# Altium schematic symbol library Schlib_jp.SchLib: 203 symbols (part 1 of 6)
Pins are listed as number, name and electrical type; pins without a type are passive.

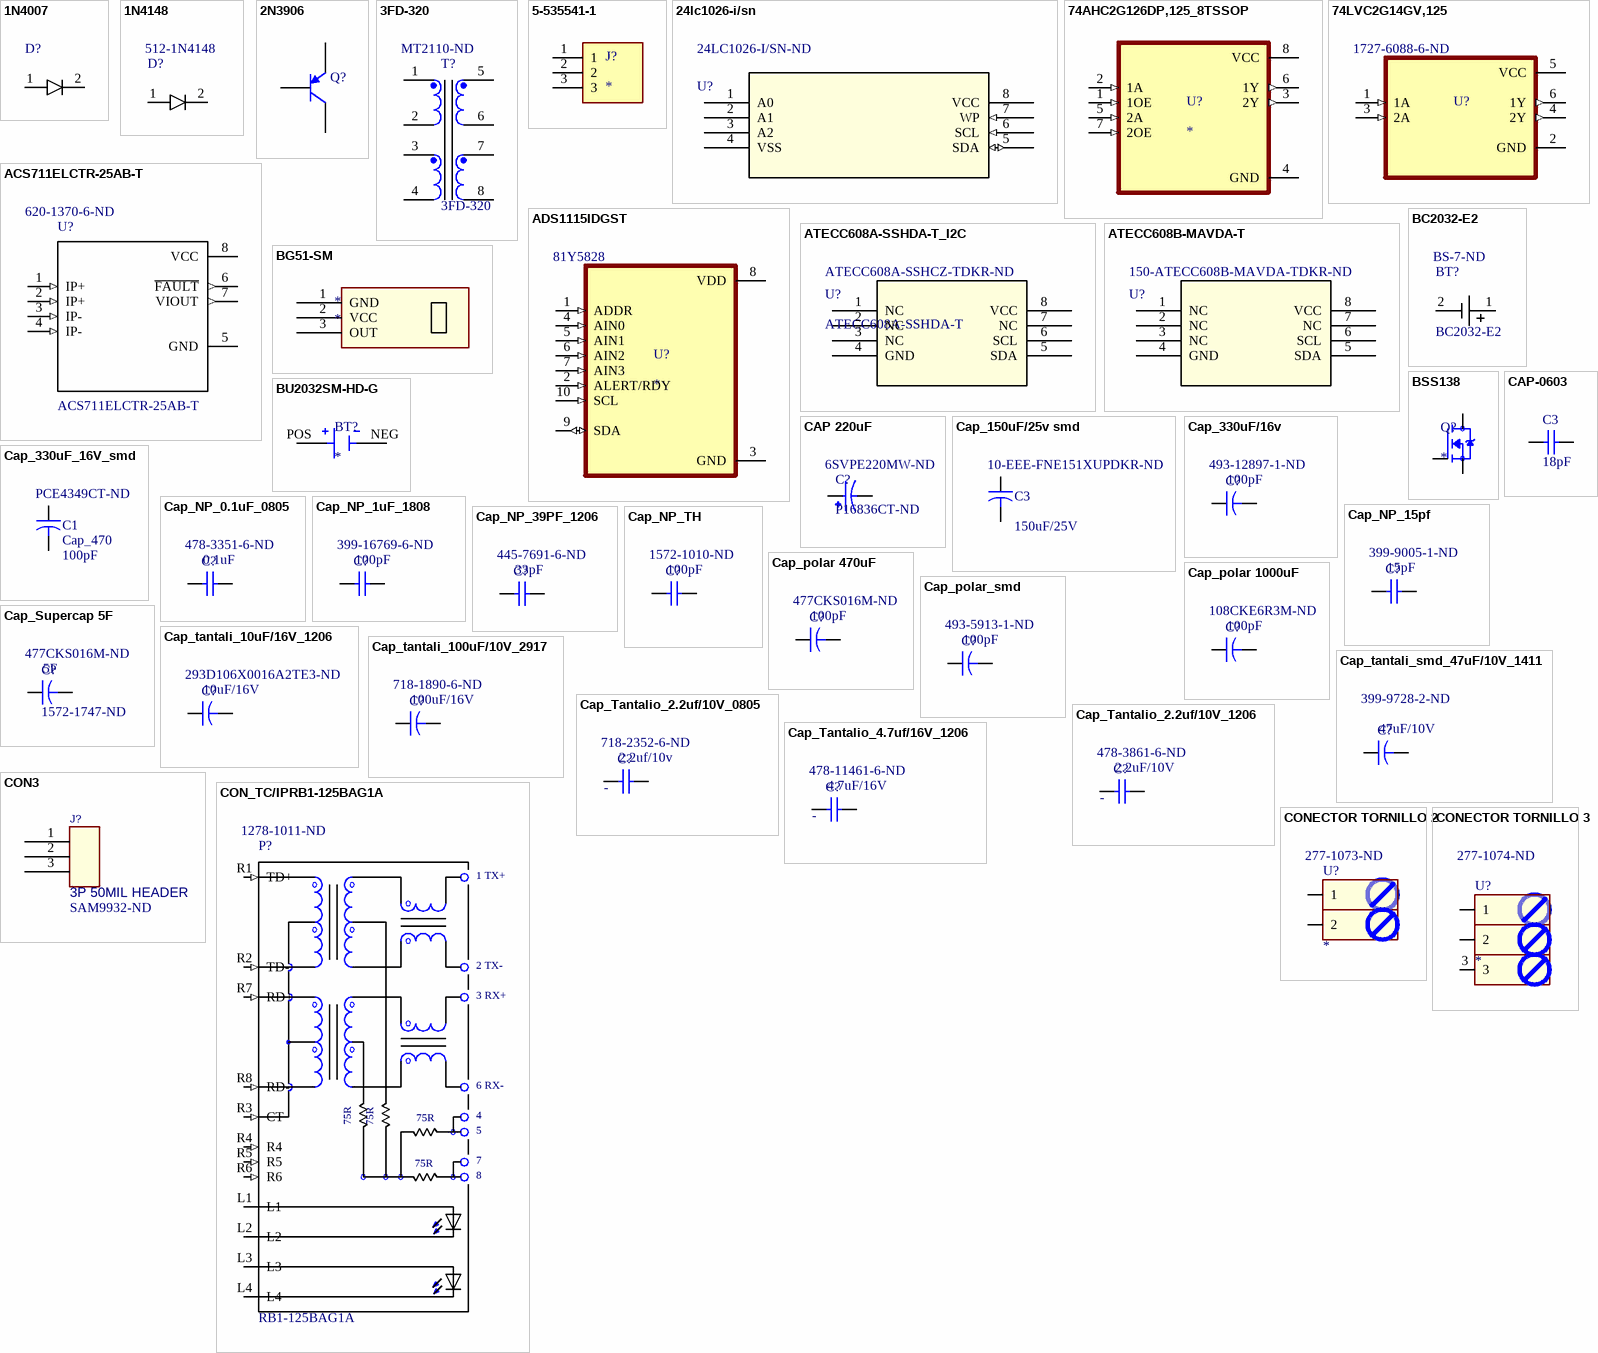
[diagram p0: symbols 1N4007 to CONECTOR TORNILLO 3]

## 1N4007
designator D?  (value not drawn)
Diode Switching 1KV 1A 2-Pin DO-41; Manufacturer: ON Semiconductor / Fairchild; MF: ON Semiconductor; Forward Voltage: 1.1V; Polarity: Standard; Peak Non-Repetitive Surge Current: 30A; Element Configuration: Single; Capacitance: 15pF; Peak Reverse Current: 5uA; Power Dissipation: 3W; Price: None; Package: DO-41 Good-Ark; Availability: Unavailable; MP: 1N4007; SnapEDA_Link: https://www.snapeda.com/parts/1N4007/ON%20Semiconductor/view-part/?ref=snap; Value: *; Supplier 1: Digi-Key; Manufacturer Part Number: 1N4007; Stock 1: 0; Pricing 1: 1=0.18, 10=0.168, 100=0.0912, 500=0.05614, 1000=0.03827 (USD); Mount: Through Hole; Number of Pins: 2; Weight: 0.245g; Contact Plating: Tin,Matte; Min Operating Temperature: -65°C; Max Operating Temperature: 175°C; Packaging: Tape and Reel; Voltage Rating (DC): 1kV; Current Rating: 1A; Output Current: 1A; Max Surge Current: 30A; Forward Current: 1A; Max Repetitive Reverse Voltage (Vrrm): 1kV; Max Forward Surge Current (Ifsm): 30A; Package Quantity: 1000; Reverse Voltage: 1kV; Average Rectified Current: 1A; Max Reverse Voltage (DC): 1kV; Diameter: 2.72mm; Length: 5.2mm; Height: 5.2mm; Width: 2.72mm; Radiation Hardening: No; REACH SVHC: No SVHC; Lead Free: Lead Free; ComponentLink1URL: http://www.farnell.com/datasheets/2288250.pdf?src-supplier=Newark; ComponentLink1Description: http://www.farnell.com/datasheets/2288250.pdf?src-supplier=Newark; ComponentLink2URL: http://www.onsemi.com/pub/Collateral/1N4001-D.PDF?src-supplier=Digi-Key; ComponentLink2Description: http://www.onsemi.com/pub/Collateral/1N4001-D.PDF?src-supplier=Digi-Key; ComponentLink3URL: http://www.fairchildsemi.com/datasheets/1N/1N4001.pdf?src-supplier=Digi-Key; ComponentLink3Description: http://www.fairchildsemi.com/datasheets/1N/1N4001.pdf?src-supplier=Digi-Key; Supplier Part Number 1: 1N4007FSCT-ND
footprint DIODE1N4007(Primary)
pins: 1, 2

## 1N4148
designator D?  Supplier Part Number 2: 512-1N4148  (hidden comment: 1N4148)
Diode Switching 1KV 1A 2-Pin DO-41; Manufacturer: ON Semiconductor / Fairchild; MF: ON Semiconductor; MP: 1N4007; Forward Voltage: 1.1V; Polarity: Standard; Peak Non-Repetitive Surge Current: 30A; Element Configuration: Single; Capacitance: 15pF; Peak Reverse Current: 5uA; Power Dissipation: 3W; Price: None; Package: DO-41 Good-Ark; Availability: Unavailable; SnapEDA_Link: https://www.snapeda.com/parts/1N4007/ON%20Semiconductor/view-part/?ref=snap; Value: *; Supplier 1: Digi-Key; Manufacturer Part Number: 1N4007; Stock 1: 0; Pricing 1: 1=0.18, 10=0.168, 100=0.0912, 500=0.05614, 1000=0.03827 (USD); Mount: Through Hole; Number of Pins: 2; Weight: 0.245g; Contact Plating: Tin,Matte; Min Operating Temperature: -65°C; Max Operating Temperature: 175°C; Packaging: Tape and Reel; Voltage Rating (DC): 1kV; Current Rating: 1A; Output Current: 1A; Max Surge Current: 30A; Forward Current: 1A; Max Repetitive Reverse Voltage (Vrrm): 1kV; Max Forward Surge Current (Ifsm): 30A; Package Quantity: 1000; Reverse Voltage: 1kV; Average Rectified Current: 1A; Max Reverse Voltage (DC): 1kV; Diameter: 2.72mm; Length: 5.2mm; Height: 5.2mm; Width: 2.72mm; Radiation Hardening: No; REACH SVHC: No SVHC; Lead Free: Lead Free; ComponentLink1URL: http://www.farnell.com/datasheets/2288250.pdf?src-supplier=Newark; ComponentLink1Description: http://www.farnell.com/datasheets/2288250.pdf?src-supplier=Newark; ComponentLink2URL: http://www.onsemi.com/pub/Collateral/1N4001-D.PDF?src-supplier=Digi-Key; ComponentLink2Description: http://www.onsemi.com/pub/Collateral/1N4001-D.PDF?src-supplier=Digi-Key; ComponentLink3URL: http://www.fairchildsemi.com/datasheets/1N/1N4001.pdf?src-supplier=Digi-Key; ComponentLink3Description: http://www.fairchildsemi.com/datasheets/1N/1N4001.pdf?src-supplier=Digi-Key; Supplier Part Number 1: 1N4007FSCT-ND; Supplier 2: Mouser
footprint 1N4148
pins: 1, 2

## 2N3906
designator Q?
PNP General Purpose Amplifier; Published: 8-Jun-2000; LatestRevisionDate: 15-Jan-2003; LatestRevisionNote: PCB Footprint 'BCY-W3/D4.7' replaced; DatasheetVersion: 1997; PackageVersion: Sep-1998; PackageReference: TO-92A; Publisher: Altium Limited; PackageDescription: TO, Flat Index; 3 In-Line, Axial Leads; Body Dia. 4.5mm; Leads 0.51 x 0.48 mm (max); ComponentLink1Description: Manufacturer Link; ComponentLink1URL: http://www.fairchildsemi.com/; ComponentLink2Description: Datasheet; ComponentLink2URL: http://www.fairchildsemi.com/ds/2N%2F2N3906.pdf
footprint TO-92A (TO, Flat Index; 3 In-Line, Axial Leads; Body Dia. 4.5mm; Leads 0.51 x 0.48 mm (max))
simulation model 2N3906 (PNP)
signal-integrity model 2N3906
pins: 1 E, 2 B, 3 C

## 3FD-320
designator T?  Supplier Part Number 1: MT2110-ND
Transformadores 12.6VCT @ .2A 6.3V  @ .4A Dual Primary; MP: 3FD-312; MF: Tamura; Package: SOIC-16 Tamura; Price: None; Availability: Unavailable; SnapEDA_Link: https://www.snapeda.com/parts/3FD-312/Tamura/view-part/?ref=snap; Value: *; Supplier 1: Digi-Key
footprint XFMR_3FD-320 (TAMURA)
pins: 1, 2, 3, 4, 5, 6, 7, 8

## 5-535541-1
designator J?  (value not drawn)
Conn Socket Strip RCP 3 POS 2.54mm Solder ST Thru-Hole Gang of Tubes; Product_Type: Connector; MF: TE Connectivity; Number_of_Positions: 3; Centerline_Pitch: 2.54 mm[.1 in]; Package: None; Value: *; TE_purchase_URL: https://www.te.com/usa-en/product-5-535541-1.html?te_bu=Cor&te_type=disp&te_campaign=seda_glo_cor-seda-global-disp-prtnr-fy19-seda-model-bom-cta_sma-317_1&elqCampaignId=32493; Price: None; MP: 5-535541-1; SnapEDA_Link: https://www.snapeda.com/parts/5-535541-1/TE%20Connectivity%20AMP%20Connectors/view-part/443642/?ref=snap; Availability: Unavailable; EU_RoHS_Compliance: Compliant; Comment_1: *
footprint TE_5-535541-1
pins: 1, 2, 3

## 24lc1026-i/sn
designator U?, comment 24LC1026-I/SN-ND
Memoria IC EEPROM 1Mb (128K x 8) I²C 900ns 8-SOIC; Manufacturer_Part_Number: 24lc1025-i/sn; Vendor: Microchip; Built_By: EMA_UL_Team; Value: 24LC1025; Interface: I2C,Serial; Frequency: 400kHz; Max Supply Voltage: 5.5V; Min Supply Voltage: 2.5V; Nominal Supply Current: 5mA; Operating Supply Voltage: 5V; Copyright: Copyright (C) 2018 Accelerated Designs. All rights reserved; RefDes: RefDes; Type: DEV; Supplier 1: Digi-Key; Manufacturer: Microchip; Manufacturer Part Number: 24LC1025-I/SN; Stock 1: 1127; Pricing 1: 1=2.86, 25=2.76 (USD); Mount: Surface Mount; Case/Package: SOIC; Number of Pins: 8; Min Operating Temperature: -40°C; Max Operating Temperature: 85°C; Access Time: 900ns; Packaging: Rail/Tube; Package Quantity: 100; Density: 1Mb; Memory Type: EEPROM; Memory Size: 1Mb; Max Frequency: 400kHz; Length: 4.9mm; Height: 1.75mm; Width: 6mm; Radiation Hardening: No; Lead Free: Lead Free; ComponentLink1URL: http://ww1.microchip.com/downloads/en/DeviceDoc/21941H.pdf?src-supplier=Avnet; ComponentLink1Description: http://ww1.microchip.com/downloads/en/DeviceDoc/21941H.pdf?src-supplier=Avnet; ComponentLink2URL: http://ww1.microchip.com/downloads/en/DeviceDoc/21941H.pdf?src-supplier=Avnet+Europe; ComponentLink2Description: http://ww1.microchip.com/downloads/en/DeviceDoc/21941H.pdf?src-supplier=Avnet+Europe; Supplier 2: Digi-Key; Supplier Part Number 1: 24LC1025-I/SN-ND; Supplier: DIGI_KEY; Link: https://www.digikey.com/es/products/detail/microchip-technology/24LC1026-I-SN/2601405; Digi_Key_Part_Number: 24LC1026-I/SN-ND; ComponentLink3Description: IC EEPROM 1MBIT I2C 400KHZ 8SOIC; ComponentLink3URL: https://www.digikey.com/es/products/detail/microchip-technology/24LC1026-I-SN/2601405?s=N4IgTCBcDa4CwBkDCBGADGAbAWgJIHoBlAORAF0BfIA; Supplier Part Number 2: 24LC1026-I/SN-ND
footprint SOIC8-N_MC-M
pins: 1 A0, 2 A1, 3 A2, 4 VSS (power), 5 SDA (io), 6 SCL (in), 7 WP (in), 8 VCC (power)

## 74AHC2G126DP,125_8TSSOP
designator U?
Dual Bus Buffer Gate With 3-State Outputs 8-TSSOP -40 to 125; MP: 74AHC2G126DP,125; Value: 74AHC2G126DP,125; MF: Nexperia USA Inc.; Check_prices: https://www.snapeda.com/parts/SN74LVC2G126DCUR/Texas%20Instruments/view-part/401295/?ref=eda; Price: None; SnapEDA_Link: https://www.snapeda.com/parts/SN74LVC2G126DCUR/Texas%20Instruments/view-part/401295/?ref=snap; Availability: Good; Purchase-URL: https://pricing.snapeda.com/search/part/SN74LVC2G126DCUR/?ref=eda; Package: TSSOP-8 Texas Instruments; Link: https://www.digikey.com/en/products/detail/nexperia-usa-inc/74AHC2G126DP-125/1229530; Digi-Key_Part_Number: 1727-8369-1-ND; ComponentLink1Description: 74AHC2G126DP,125; ComponentLink1URL: https://www.digikey.com/en/products/detail/nexperia-usa-inc/74AHC2G126DP-125/1229530
footprint SOP65P490X110-8N
pins: 1 1OE (in), 2 1A (in), 3 2Y (out), 4 GND (power), 5 2A (in), 6 1Y (out), 7 2OE (in), 8 VCC (power)

## 74LVC2G14GV,125
designator U?, comment Supplier Part Number 1: 1727-6088-6-ND  (hidden comment: 1727-6088-1-ND)
Inversor IC 2 Canal Gatillo Schmitt 6-TSOP; MP: SN74LVC2G17DBVR; MF: Texas Instruments; Texas_Instruments-Purchase-URL: https://snapeda.com/shop?store=Texas+Instruments&id=55703; SnapEDA_Link: https://www.snapeda.com/parts/SN74LVC2G17DBVR/Texas%20Instruments/view-part/55703/?ref=snap; Value: *; Mouser-Purchase-URL: https://snapeda.com/shop?store=Mouser&id=55703; Package: SOT-23-6 Texas Instruments; Arrow_Electronics-Purchase-URL: https://snapeda.com/shop?store=Arrow+Electronics&id=55703; DigiKey-Purchase-URL: https://snapeda.com/shop?store=DigiKey&id=55703; Supplier 1: Digi-Key; ComponentLink1Description: IC INVERT SCHMITT 2CH 2-IN 6TSOP; ComponentLink1URL: https://www.digikey.com/es/products/detail/nexperia-usa-inc/74LVC2G14GV-125/1231582?s=N4IgTCBcDaIIwHYwILQDYAMAOLK4oDkAREAXQF8g; Digi-Key_Part_Number: 1727-6088-1-ND; Link: https://www.digikey.com/es/products/detail/nexperia-usa-inc/74LVC2G14GV-125/1231582?s=N4IgTCBcDaIIwHYwILQDYAMAOLK4oDkAREAXQF8g
footprint SOT95P275X110-6N
footprint Model Name (Footprint not found)
pins: 1 1A (in), 2 GND (power), 3 2A (in), 4 2Y (out), 5 VCC (power), 6 1Y (out)

## ACS711ELCTR-25AB-T
designator U?  Supplier Part Number 1: 620-1370-6-ND
Hall Effect Linear Current Sensor with Overcurrent Fault Output for <100 V Isolation Applications; Manufacturer: Allegro MicroSystems; Manufacturer Part Number: ACS711ELCTR-12AB-T; MF: Allegro MicroSystems LLC; Number of Channels: 1; Frequency: 100kHz; Response Time: 4.6us; Max Supply Current: 5.5mA; Polarity: Bidirectional; Linearity: 1%; Accuracy: 5%; Current Sensing: 12.5A; Sensitivity: 110mV/A; Operating Supply Voltage: 3.3V; SnapEDA_Link: https://www.snapeda.com/parts/ACS711ELCTR-25AB-T/Allegro%20MicroSystems%20LLC/view-part/?ref=snap; Package: SOIC-8 Allegro MicroSystems LLC; MP: ACS711ELCTR-25AB-T; Availability: Unavailable; Price: None; Value: *; Supplier 1: Digi-Key; Stock 1: 4237; Pricing 1: 1=2.89, 5=2.682, 10=2.228, 25=1.8564, 50=1.65, 100=1.5675, 500=1.32, 1000=1.2375 (USD); Case/Package: SOIC; Number of Pins: 8; Min Operating Temperature: -40°C; Max Operating Temperature: 85°C; Package Quantity: 1; -3db Bandwidth: 100kHz; Packaging: Tape and Reel; ComponentLink1URL: http://www.allegromicro.com/en/Products/Part_Numbers/0711/0711.pdf?src-supplier=Avnet; ComponentLink1Description: http://www.allegromicro.com/en/Products/Part_Numbers/0711/0711.pdf?src-supplier=Avnet; ComponentLink2URL: http://www.allegromicro.com/~/media/Files/Datasheets/ACS711-Datasheet.ashx?src-supplier=Avnet+Europe; ComponentLink2Description: http://www.allegromicro.com/~/media/Files/Datasheets/ACS711-Datasheet.ashx?src-supplier=Avnet+Europe
footprint SOIC127P600X175-8N
pins: 1 IP+ (in), 2 IP+ (in), 3 IP- (in), 4 IP- (in), 5 GND (power), 6 ~{FAULT} (out), 7 VIOUT (out), 8 VCC (power)

## ADS1115IDGST
designator U?  Supplier Part Number 1: 81Y5828
MP: ADS1115IDGST; Package: None; Availability: Unavailable; Value: *; Price: None; Supplier 1: Newark
footprint SOP50P490X110-10N
pins: 1 ADDR (in), 2 ALERT/RDY (in), 3 GND (power), 4 AIN0 (in), 5 AIN1 (in), 6 AIN2 (in), 7 AIN3 (in), 8 VDD (power), 9 SDA (io), 10 SCL (in)

## ATECC608A-SSHDA-T_I2C
designator U?, comment ATECC608A-SSHDA-T  Supplier Part Number 1: ATECC608A-SSHCZ-TDKR-ND
CHIP DE AUTENTICACIÓN IC 8SOIC; Mfr_Name: Microchip; Manufacturer_Part_Number: ATECC608A-SSHCZ-T; Copyright: Copyright (C) 2022 Ultra Librarian. All rights reserved.; Digi-Key_Part_Number: 150-ATECC608B-SSHDA-TCT-ND; RefDes: RefDes; Type: DEV; Supplier 1: Digi-Key; ComponentLink1Description: ATECC608A-SSHDA-T; ComponentLink1URL: https://ww1.microchip.com/downloads/en/DeviceDoc/ATECC608A-CryptoAuthentication-Device-Summary-Data-Sheet-DS40001977B.pdf; Link: https://www.digikey.com/es/products/detail/microchip-technology/ATECC608B-SSHDA-T/13415162?s=N4IgTCBcDaIIIBUCiBhFA2ADADgEIAIBlQgCQBFEQBdAXyA; ComponentLink2Description: IC AUTHENTICATION CHIP; ComponentLink2URL: https://www.digikey.com/es/products/detail/microchip-technology/ATECC608B-SSHDA-T/13415162?s=N4IgTCBcDaIIwFYAMBaAggFQKIGEcDYkAOAIRQGVyAJAETRQxwxQDkaQBdAXyA
footprint SOIC8_4P9X3P9MC_MCH
pins: 1 NC, 2 NC, 3 NC, 4 GND, 5 SDA, 6 SCL, 7 NC, 8 VCC (power)

## ATECC608B-MAVDA-T
designator U?, comment Supplier Part Number 1: 150-ATECC608B-MAVDA-TDKR-ND  (hidden comment: 150-ATECC608B-MAVDA-TCT-ND)
IC AUTHENTICATION CHIP; Mfr_Name: Microchip; Manufacturer_Part_Number: ATECC608A-SSHCZ-T; Copyright: Copyright (C) 2022 Ultra Librarian. All rights reserved.; Digi-Key_Part_Number_1: ATECC608A-SSHCZ-TCT-ND; Digi-Key_Part_Number_2: ATECC608A-SSHCZ-TDKR-ND; Digi-Key_Part_Number_3: ATECC608A-SSHCZ-TTR-ND; RefDes: RefDes; Type: DEV; Supplier 1: Digi-Key
footprint SON50P300X200X60-9N-EP160X140
pins: 1 NC, 2 NC, 3 NC, 4 GND, 5 SDA, 6 SCL, 7 NC, 8 VCC (power)

## BC2032-E2
designator BT?  Supplier Part Number 1: BS-7-ND
BATTERY HOLDER COIN 20MM PC PIN; Manufacturer: Memory Protection Devices; Manufacturer Part Number: BS-7; MF: MPD _Memory; Number of Cells: 1; Package: None; Digi-Key_Purchase_URL: https://www.digikey.com/product-detail/en/mpd-memory-protection-devices/BC2032-E2/BC2032-E2-ND/2077836?utm_source=snapeda&utm_medium=aggregator&utm_campaign=symbol; SnapEDA_Link: https://www.snapeda.com/parts/BC2032-E2/MPD%20%28Memory%20Protection%20Devices%29/view-part/?ref=snap; Digi-Key_Part_Number: BC2032-E2-ND; MP: BC2032-E2; Value: *; Supplier 1: Digi-Key; Stock 1: 49949; Pricing 1: 1=0.75, 10=0.634, 100=0.5239, 500=0.45288, 1000=0.4235 (USD); Mount: Through Hole,PCB; Min Operating Temperature: -55°C; Max Operating Temperature: 105°C; Package Quantity: 100; Termination: PC Pin; Diameter: 20mm; Lead Free: Lead Free; ComponentLink1URL: http://www.memoryprotectiondevices.com/datasheets/BS-7-datasheet.pdf?src-supplier=Digi-Key; ComponentLink1Description: http://www.memoryprotectiondevices.com/datasheets/BS-7-datasheet.pdf?src-supplier=Digi-Key
footprint BAT3
pins: 1, 2

## BG51-SM
designator *
The BG51 is capable of detecting beta radiation / (electrons), gamma radiation (photons) and X-rays.
footprint BG51SM (Nuclear Beta and Gamma Radiation Sensor)
pins: 1 GND, 2 VCC (power), 3 OUT

## BSS138
designator Q?
N-Channel 50V 220mA (Ta) 360mW (Ta) Surface Mount SOT-23-3; MP: BSS138; MF: ON Semiconductor; SnapEDA_Link: https://www.snapeda.com/parts/BSS138/ON%20Semiconductor/view-part/4794929/?ref=snap; Purchase-URL: https://pricing.snapeda.com/search/part/BSS138/?ref=eda; Value: *; Package: SOT-23 ON; Digi-Key_Part_Number: BSS138CT-ND; Check_prices: https://www.snapeda.com/parts/BSS138/ON%20Semiconductor/view-part/4794929/?ref=eda
footprint SOT95P240X111-3N
pins: 1 G, 2 S, 3 D

## BU2032SM-HD-G
designator BT?
BATTERY HBattery Holder (Open) Coin, 20.0mm 1 Cell SMD (SMT) TabOLDER COIN 20MM SMD; MP: BU2032SM-HD-G; MF: MPD _Memory; Package: None; Value: *; Availability: Unavailable; Price: None; ComponentLink1Description: BU2032SM-HD-G; ComponentLink1URL: https://www.digikey.com/en/products/detail/mpd-memory-protection-devices/BU2032SM-HD-G/755446; Digi-Key_Part_Number: BU2032SM-HD-GCT-ND; Link: https://www.digikey.com/en/products/detail/mpd-memory-protection-devices/BU2032SM-HD-G/755446
footprint BAT_BU2032SM-HD-G
pins: NEG, POS

## CAP 220uF
designator C?, comment P16836CT-ND  Supplier Part Number 1: 6SVPE220MW-ND
220 µF 6.3 V Aluminio - capacitores de polímero Radial, encapsulado - terminales SMD 15mOhm 2000 h a 105°C; MP: 6SVPE220MW; Availability: Unavailable; Package: None; Value: *; Price: None; ComponentLink1Description: 6SVPE220MW; ComponentLink1URL: https://www.digikey.com/en/products/detail/panasonic-electronic-components/6SVPE220MW/4209271; Supplier 1: Digi-Key
footprint CAP_6SVPE220MW
pins: 1, 2

## CAP-0603
designator C3, comment 18pF
Ceramic CAP 0603(1608)
pins: 1, 2

## Cap_150uF/25v smd
designator C3  value 150uF/25V  Supplier Part Number 1: 10-EEE-FNE151XUPDKR-ND
Capacitor; Manufacturer: Nichicon; Manufacturer Part Number: UVR1E102MPD1TD; Dielectric Material: Aluminium; Capacitance: 1mF; Tolerance: 20%; Voltage Rating (DC): 25V; Life (Hours): 2000Hour; Ripple Current: 960mA; Leakage Current: 750uA; Dissipation Factor: 0.16%; Lead Diameter: 0.6mm; Published: 23-Sep-2002; PackageReference: CAPR5-4X5; Publisher: Altium Limited; PackageDescription: Capacitor; 2 Leads; Mount: Through Hole,PCB; Case/Package: Radial; Number of Pins: 2; Min Operating Temperature: -40°C; Max Operating Temperature: 85°C; Packaging: Tape and Reel; Voltage Rating: 25V; Package Quantity: 500; Termination: Radial; Voltage: 25V; Diameter: 10mm; Length: 20mm; Height: 20mm; Lead Pitch: 5mm; Height - Seated (Max): 0.866inch; Radiation Hardening: No; REACH SVHC: No SVHC; Lead Free: Lead Free; ComponentLink1Description: EEE-FNE151XUP; ComponentLink1URL: https://www.digikey.com/es/products/detail/panasonic-electronic-components/EEE-FNE151XUP/11656894; Supplier 1: Digi-Key
footprint CAPAE1030X1030N - duplicate
pins: 1, 2

## Cap_330uF/16v
designator C?  value 100pF  Supplier Part Number 1: 493-12897-1-ND
330 µF 16 V Aluminum Electrolytic Capacitors Radial, Can 1000 Hrs @ 105°C; Manufacturer: Nichicon; Manufacturer Part Number: UVR1E102MPD1TD; Dielectric Material: Aluminium; Capacitance: 1mF; Tolerance: 20%; Voltage Rating (DC): 25V; Life (Hours): 2000Hour; Ripple Current: 960mA; Leakage Current: 750uA; Dissipation Factor: 0.16%; Lead Diameter: 0.6mm; Published: 23-Sep-2002; PackageReference: CAPR5-4X5; Publisher: Altium Limited; PackageDescription: Capacitor; 2 Leads; Mount: Through Hole,PCB; Case/Package: Radial; Number of Pins: 2; Min Operating Temperature: -40°C; Max Operating Temperature: 85°C; Packaging: Tape and Reel; Voltage Rating: 25V; Package Quantity: 500; Termination: Radial; Voltage: 25V; Diameter: 10mm; Length: 20mm; Height: 20mm; Lead Pitch: 5mm; Height - Seated (Max): 0.866inch; Radiation Hardening: No; REACH SVHC: No SVHC; Lead Free: Lead Free; ComponentLink1URL: http://www.farnell.com/datasheets/1909356.pdf?src-supplier=Element14; ComponentLink1Description: http://www.farnell.com/datasheets/1909356.pdf?src-supplier=Element14; ComponentLink2URL: http://nichicon-us.com/english/products/pdfs/e-uvr.pdf?src-supplier=Digi-Key; ComponentLink2Description: http://nichicon-us.com/english/products/pdfs/e-uvr.pdf?src-supplier=Digi-Key; ComponentLink3URL: http://www.nichicon.co.jp/english/products/pdfs/e-vr.pdf?src-supplier=Avnet; ComponentLink3Description: http://www.nichicon.co.jp/english/products/pdfs/e-vr.pdf?src-supplier=Avnet; ComponentLink4URL: http://products.nichicon.co.jp/en/pdf/XJA043/e-vr.pdf?src-supplier=Future+Electronics; ComponentLink4Description: http://products.nichicon.co.jp/en/pdf/XJA043/e-vr.pdf?src-supplier=Future+Electronics; Supplier 1: Digi-Key; Stock 1: 8502; Pricing 1: 1=0.45, 10=0.312, 100=0.1869, 500=0.14018, 1000=0.11837 (USD); ComponentLink5URL: http://nichicon-us.com/english/products/pdfs/e-uvy.pdf?src-supplier=Digi-Key; ComponentLink5Description: http://nichicon-us.com/english/products/pdfs/e-uvy.pdf?src-supplier=Digi-Key; Digi_Key_Part_Number: 493-12897-1-ND; Link: https://www.digikey.com/en/products/detail/nichicon/UVY1C331MED1TD/4329096?s=N4IgTCBcDaICwE4DMBGMAOBB2AtCkAugL5A
footprint C470U
pins: 1, 2

## Cap_330uF_16V_smd
designator C1, comment Cap_470  value 100pF  Supplier Part Number 1: PCE4349CT-ND
Capacitor; Manufacturer: Nichicon; Manufacturer Part Number: UVR1E102MPD1TD; Dielectric Material: Aluminium; Capacitance: 1mF; Tolerance: 20%; Voltage Rating (DC): 25V; Life (Hours): 2000Hour; Ripple Current: 960mA; Leakage Current: 750uA; Dissipation Factor: 0.16%; Lead Diameter: 0.6mm; Published: 23-Sep-2002; PackageReference: CAPR5-4X5; Publisher: Altium Limited; PackageDescription: Capacitor; 2 Leads; Mount: Through Hole,PCB; Case/Package: Radial; Number of Pins: 2; Min Operating Temperature: -40°C; Max Operating Temperature: 85°C; Packaging: Tape and Reel; Voltage Rating: 25V; Package Quantity: 500; Termination: Radial; Voltage: 25V; Diameter: 10mm; Length: 20mm; Height: 20mm; Lead Pitch: 5mm; Height - Seated (Max): 0.866inch; Radiation Hardening: No; REACH SVHC: No SVHC; Lead Free: Lead Free; ComponentLink1Description: EEE-FC1C331AP; ComponentLink1URL: https://www.digikey.com/es/products/detail/panasonic-electronic-components/EEE-FC1C331AP/1141908; Supplier 1: Digi-Key
footprint CAPAE1030X1030N
pins: 1, 2

## Cap_NP_0.1uF_0805
designator C?, comment value 0.1uF  Supplier Part Number 1: 478-3351-6-ND  (hidden comment: 478-3351-1-ND)
0.1 µF ±20% 50V Ceramic Capacitor X7R 0805 (2012 Metric); Manufacturer: Kyocera AVX; Manufacturer Part Number: 08055C104MAT2A; Dissipation Factor: 2.5%; Insulation Resistance: 100GR; Capacitance: 100nF; Published: 8-Jun-2000; LatestRevisionDate: 17-Jul-2002; LatestRevisionNote: Re-released for DXP Platform.; PackageReference: RAD-0.3; Publisher: Altium Limited; PackageDescription: Radial Cap, Thru-Hole; 2 Leads; 0.3 in Pin Spacing; Supplier 1: Digi-Key; Stock 1: 163878; Pricing 1: 1=0.2, 10=0.14, 100=0.066, 500=0.0463, 1000=0.03833 (USD); Mount: Surface Mount,PCB; Case/Package: 0805; Number of Pins: 2; Case Code (Metric): 2012; Case Code (Imperial): 0805; Contact Plating: Tin,Matte; Dielectric Material: Ceramic; Min Operating Temperature: -55°C; Max Operating Temperature: 125°C; Package Quantity: 1; Voltage Rating: 50V; Tolerance: 20%; Packaging: Tape and Reel; Voltage Rating (DC): 50V; Dielectric: X7R; Termination: SMD/SMT; Voltage: 50V; Length: 2.01mm; Height: 0.94mm; Width: 0.049inch; Thickness: 0.037inch; Depth: 1.25mm; Radiation Hardening: No; REACH SVHC: No SVHC; Lead Free: Lead Free; ComponentLink1URL: http://catalogs.avx.com/SurfaceMount.pdf?src-supplier=Digi-Key; ComponentLink1Description: http://catalogs.avx.com/SurfaceMount.pdf?src-supplier=Digi-Key; ComponentLink2URL: http://www.avx.com/docs/catalogs/cx7r.pdf?src-supplier=Avnet; ComponentLink2Description: http://www.avx.com/docs/catalogs/cx7r.pdf?src-supplier=Avnet; ComponentLink3URL: https://www.alliedelec.com/m/d/a24bb5190bea413b2ff164816f55e87c.pdf?src-supplier=Allied+Electronics; ComponentLink3Description: https://www.alliedelec.com/m/d/a24bb5190bea413b2ff164816f55e87c.pdf?src-supplier=Allied+Electronics; ComponentLink4URL: http://www.avx.com/docs/catalogs/cx7r.pdf?src-supplier=Avnet+Europe; ComponentLink4Description: http://www.avx.com/docs/catalogs/cx7r.pdf?src-supplier=Avnet+Europe; ComponentLink5URL: http://www.farnell.com/datasheets/2095836.pdf?src-supplier=Element14; ComponentLink5Description: http://www.farnell.com/datasheets/2095836.pdf?src-supplier=Element14; ComponentLink6URL: http://www.farnell.com/datasheets/2237835.pdf?src-supplier=Element14; ComponentLink6Description: http://www.farnell.com/datasheets/2237835.pdf?src-supplier=Element14; ComponentLink7URL: http://avx.com/docs/Catalogs/cx7r.pdf?src-supplier=Element14; ComponentLink7Description: http://avx.com/docs/Catalogs/cx7r.pdf?src-supplier=Element14; Link: https://www.digikey.com/en/products/detail/kyocera-avx/08055C104MAT2A/929983?s=N4IgTCBcDaICwHYAcBmFBWAjANhAXQF8g; Digi_Key_Part_Number: 478-3351-1-ND
footprint CAP_NP_0805
pins: 1, 2

## Cap_NP_1uF_1808
designator C?, comment value 100pF  Supplier Part Number 1: 399-16769-6-ND  (hidden comment: 399-16769-1-ND)
1000 pF ±20% 2000V (2kV) Ceramic Capacitor X7R 1808 (4520 Metric); Manufacturer: Kyocera AVX; Manufacturer Part Number: 08055C104MAT2A; Capacitance: 100nF; Voltage Rating: 50V; Dissipation Factor: 2.5%; Insulation Resistance: 100GR; Published: 8-Jun-2000; LatestRevisionDate: 17-Jul-2002; LatestRevisionNote: Re-released for DXP Platform.; PackageReference: RAD-0.3; Publisher: Altium Limited; PackageDescription: Radial Cap, Thru-Hole; 2 Leads; 0.3 in Pin Spacing; Mount: Surface Mount,PCB; Case/Package: 0805; Number of Pins: 2; Case Code (Metric): 2012; Case Code (Imperial): 0805; Contact Plating: Tin,Matte; Dielectric Material: Ceramic; Min Operating Temperature: -55°C; Max Operating Temperature: 125°C; Package Quantity: 1; Tolerance: 20%; Packaging: Tape and Reel; Voltage Rating (DC): 50V; Dielectric: X7R; Termination: SMD/SMT; Voltage: 50V; Length: 2.01mm; Height: 0.94mm; Width: 0.049inch; Thickness: 0.037inch; Depth: 1.25mm; Radiation Hardening: No; REACH SVHC: No SVHC; Lead Free: Lead Free; ComponentLink1Description: 399-16769-1-ND; ComponentLink1URL: https://www.digikey.com/es/products/detail/kemet/C1808C102MGRACAUTO/8109950?s=N4IgjCBcpgbFoDGUBmBDANgZwKYBoQB7KAbXDABYKAmakAXQIAcAXKEAZRYCcBLAOwDmIAL4iCdSGTD8AYgHpqAawBqAAgDCObmgC2vZPRFA; Supplier 1: Digi-Key; Digi_Key_Part_Number: 399-16769-1-ND; Link: https://www.digikey.com/en/products/detail/kemet/C1808C102MGRACAUTO/8109950?s=N4IgTCBcDaIMwE4EEYBsB2VKQF0C%2BQA
footprint CAP-1808 (Ceramic CAP 1808(4520))
pins: 1, 2

## Cap_NP_15pf
designator C?  value 15pF  Supplier Part Number 1: 399-9005-1-ND
Capacitor; Manufacturer: Kyocera AVX; Manufacturer Part Number: 08055C104MAT2A; Dielectric Material: Ceramic; Capacitance: 100nF; Voltage Rating: 50V; Tolerance: 20%; Dielectric: X7R; Dissipation Factor: 2.5%; Insulation Resistance: 100GR; Published: 8-Jun-2000; LatestRevisionDate: 17-Jul-2002; LatestRevisionNote: Re-released for DXP Platform.; PackageReference: RAD-0.3; Publisher: Altium Limited; PackageDescription: Radial Cap, Thru-Hole; 2 Leads; 0.3 in Pin Spacing; Mount: Surface Mount,PCB; Case/Package: 0805; Number of Pins: 2; Case Code (Metric): 2012; Case Code (Imperial): 0805; Contact Plating: Tin,Matte; Min Operating Temperature: -55°C; Max Operating Temperature: 125°C; Package Quantity: 1; Packaging: Tape and Reel; Voltage Rating (DC): 50V; Termination: SMD/SMT; Voltage: 50V; Length: 2.01mm; Height: 0.94mm; Width: 0.049inch; Thickness: 0.037inch; Depth: 1.25mm; Radiation Hardening: No; REACH SVHC: No SVHC; Lead Free: Lead Free; ComponentLink1URL: http://catalogs.avx.com/SurfaceMount.pdf?src-supplier=Digi-Key; ComponentLink1Description: http://catalogs.avx.com/SurfaceMount.pdf?src-supplier=Digi-Key; ComponentLink2URL: http://www.avx.com/docs/catalogs/cx7r.pdf?src-supplier=Avnet; ComponentLink2Description: http://www.avx.com/docs/catalogs/cx7r.pdf?src-supplier=Avnet; ComponentLink3URL: https://www.alliedelec.com/m/d/a24bb5190bea413b2ff164816f55e87c.pdf?src-supplier=Allied+Electronics; ComponentLink3Description: https://www.alliedelec.com/m/d/a24bb5190bea413b2ff164816f55e87c.pdf?src-supplier=Allied+Electronics; ComponentLink4URL: http://www.avx.com/docs/catalogs/cx7r.pdf?src-supplier=Avnet+Europe; ComponentLink4Description: http://www.avx.com/docs/catalogs/cx7r.pdf?src-supplier=Avnet+Europe; ComponentLink5URL: http://www.farnell.com/datasheets/2095836.pdf?src-supplier=Element14; ComponentLink5Description: http://www.farnell.com/datasheets/2095836.pdf?src-supplier=Element14; ComponentLink6URL: http://www.farnell.com/datasheets/2237835.pdf?src-supplier=Element14; ComponentLink6Description: http://www.farnell.com/datasheets/2237835.pdf?src-supplier=Element14; ComponentLink7URL: http://avx.com/docs/Catalogs/cx7r.pdf?src-supplier=Element14; ComponentLink7Description: http://avx.com/docs/Catalogs/cx7r.pdf?src-supplier=Element14; Supplier 1: Digi-Key; Stock 1: 59743; Pricing 1: 1=0.11, 10=0.078, 100=0.0347, 500=0.0248, 1000=0.01948 (USD); Lead Pitch: 0.7mm; ComponentLink8URL: http://www.mouser.com/ds/2/212/KEM_C1003_C0G_SMD-1101588.pdf?src-supplier=Mouser; ComponentLink8Description: http://www.mouser.com/ds/2/212/KEM_C1003_C0G_SMD-1101588.pdf?src-supplier=Mouser
footprint CAP_NP_C2012X94N
pins: 1, 2

## Cap_NP_39PF_1206
designator C?, comment value 33pF  Supplier Part Number 1: 445-7691-6-ND  (hidden comment: 478-3351-1-ND)
0.033 µF ±5% 50V Capacitores cerámicos C0G, NP0 1206 (3216 métrico); Manufacturer: Kyocera AVX; Manufacturer Part Number: 08055C104MAT2A; Digi_Key_Part_Number: 445-7691-1-ND; Dielectric Material: Ceramic; Capacitance: 100nF; Tolerance: 20%; Dielectric: X7R; Dissipation Factor: 2.5%; Insulation Resistance: 100GR; Published: 8-Jun-2000; LatestRevisionDate: 17-Jul-2002; LatestRevisionNote: Re-released for DXP Platform.; PackageReference: RAD-0.3; Publisher: Altium Limited; PackageDescription: Radial Cap, Thru-Hole; 2 Leads; 0.3 in Pin Spacing; Mount: Surface Mount,PCB; Case/Package: 0805; Number of Pins: 2; Case Code (Metric): 2012; Case Code (Imperial): 0805; Contact Plating: Tin,Matte; Min Operating Temperature: -55°C; Max Operating Temperature: 125°C; Package Quantity: 1; Voltage Rating: 50V; Packaging: Tape and Reel; Voltage Rating (DC): 50V; Termination: SMD/SMT; Voltage: 50V; Length: 2.01mm; Height: 0.94mm; Width: 0.049inch; Thickness: 0.037inch; Depth: 1.25mm; Radiation Hardening: No; REACH SVHC: No SVHC; Lead Free: Lead Free; ComponentLink1URL: http://catalogs.avx.com/SurfaceMount.pdf?src-supplier=Digi-Key; ComponentLink1Description: http://catalogs.avx.com/SurfaceMount.pdf?src-supplier=Digi-Key; ComponentLink2URL: http://www.avx.com/docs/catalogs/cx7r.pdf?src-supplier=Avnet; ComponentLink2Description: http://www.avx.com/docs/catalogs/cx7r.pdf?src-supplier=Avnet; ComponentLink3URL: https://www.alliedelec.com/m/d/a24bb5190bea413b2ff164816f55e87c.pdf?src-supplier=Allied+Electronics; ComponentLink3Description: https://www.alliedelec.com/m/d/a24bb5190bea413b2ff164816f55e87c.pdf?src-supplier=Allied+Electronics; ComponentLink4URL: http://www.avx.com/docs/catalogs/cx7r.pdf?src-supplier=Avnet+Europe; ComponentLink4Description: http://www.avx.com/docs/catalogs/cx7r.pdf?src-supplier=Avnet+Europe; ComponentLink5URL: http://www.farnell.com/datasheets/2095836.pdf?src-supplier=Element14; ComponentLink5Description: http://www.farnell.com/datasheets/2095836.pdf?src-supplier=Element14; ComponentLink6URL: http://www.farnell.com/datasheets/2237835.pdf?src-supplier=Element14; ComponentLink6Description: http://www.farnell.com/datasheets/2237835.pdf?src-supplier=Element14; ComponentLink7URL: http://avx.com/docs/Catalogs/cx7r.pdf?src-supplier=Element14; ComponentLink7Description: http://avx.com/docs/Catalogs/cx7r.pdf?src-supplier=Element14; Supplier 1: Digi-Key; Link: https://www.digikey.com/es/products/detail/C3216C0G1H333J085AA/445-7691-6-ND/2734401?utm_campaign=buynow&utm_medium=aggregator&curr=usd&utm_source=octopart
footprint CAP_1206_NP
pins: 1, 2

## Cap_NP_TH
designator C?  value 100pF  Supplier Part Number 1: 1572-1010-ND
Capacitor; Manufacturer: Kyocera AVX; Manufacturer Part Number: 08055C104MAT2A; Dielectric Material: Ceramic; Capacitance: 100nF; Voltage Rating: 50V; Tolerance: 20%; Dielectric: X7R; Dissipation Factor: 2.5%; Insulation Resistance: 100GR; Voltage Rating (AC): 250V; ESR (Equivalent Series Resistance): 17.684R; Lead Length: 15mm; Published: 8-Jun-2000; LatestRevisionDate: 17-Jul-2002; LatestRevisionNote: Re-released for DXP Platform.; PackageReference: RAD-0.3; Publisher: Altium Limited; PackageDescription: Radial Cap, Thru-Hole; 2 Leads; 0.3 in Pin Spacing; Mount: Surface Mount,PCB; Case/Package: 0805; Number of Pins: 2; Case Code (Metric): 2012; Case Code (Imperial): 0805; Contact Plating: Tin,Matte; Min Operating Temperature: -55°C; Max Operating Temperature: 125°C; Package Quantity: 1; Packaging: Tape and Reel; Voltage Rating (DC): 50V; Termination: SMD/SMT; Voltage: 50V; Length: 2.01mm; Height: 0.94mm; Width: 0.049inch; Thickness: 0.037inch; Depth: 1.25mm; Radiation Hardening: No; REACH SVHC: No SVHC; Lead Free: Lead Free; ComponentLink1URL: http://catalogs.avx.com/SurfaceMount.pdf?src-supplier=Digi-Key; ComponentLink1Description: http://catalogs.avx.com/SurfaceMount.pdf?src-supplier=Digi-Key; ComponentLink2URL: http://www.avx.com/docs/catalogs/cx7r.pdf?src-supplier=Avnet; ComponentLink2Description: http://www.avx.com/docs/catalogs/cx7r.pdf?src-supplier=Avnet; ComponentLink3URL: https://www.alliedelec.com/m/d/a24bb5190bea413b2ff164816f55e87c.pdf?src-supplier=Allied+Electronics; ComponentLink3Description: https://www.alliedelec.com/m/d/a24bb5190bea413b2ff164816f55e87c.pdf?src-supplier=Allied+Electronics; ComponentLink4URL: http://www.avx.com/docs/catalogs/cx7r.pdf?src-supplier=Avnet+Europe; ComponentLink4Description: http://www.avx.com/docs/catalogs/cx7r.pdf?src-supplier=Avnet+Europe; ComponentLink5URL: http://www.farnell.com/datasheets/2095836.pdf?src-supplier=Element14; ComponentLink5Description: http://www.farnell.com/datasheets/2095836.pdf?src-supplier=Element14; ComponentLink6URL: http://www.farnell.com/datasheets/2237835.pdf?src-supplier=Element14; ComponentLink6Description: http://www.farnell.com/datasheets/2237835.pdf?src-supplier=Element14; ComponentLink7URL: http://avx.com/docs/Catalogs/cx7r.pdf?src-supplier=Element14; ComponentLink7Description: http://avx.com/docs/Catalogs/cx7r.pdf?src-supplier=Element14; Supplier 1: Digi-Key; Stock 1: 6804; Pricing 1: 1=0.99, 10=0.785, 100=0.5886, 500=0.4447, 1000=0.39239, 2500=0.36623, 5000=0.35315 (USD); Lead Pitch: 0.886inch; Height - Seated (Max): 0.65inch; ComponentLink8URL: http://www.illinoiscapacitor.com/pdf/seriesDocuments/MSR%20series.pdf?src-supplier=Future+Electronics; ComponentLink8Description: http://www.illinoiscapacitor.com/pdf/seriesDocuments/MSR%20series.pdf?src-supplier=Future+Electronics; ComponentLink9URL: https://www.alliedelec.com/m/d/3d64ae266c9d19b4eff468d6deaeec77.pdf?src-supplier=Allied+Electronics; ComponentLink9Description: https://www.alliedelec.com/m/d/3d64ae266c9d19b4eff468d6deaeec77.pdf?src-supplier=Allied+Electronics
footprint Cap_np_TH (Axial Device, Thru-Hole; 2 Leads; 0.5 in Pin Spacing)
pins: 1, 2

## Cap_polar 470uF
designator C?, comment value 100pF  Supplier Part Number 1: 477CKS016M-ND  (hidden comment: 1572-1747-ND)
470 µF 16 V Aluminum Electrolytic Capacitors Radial, Can 564mOhm @ 120Hz 2000 Hrs @ 85°C; Manufacturer: Nichicon; Manufacturer Part Number: UVR1E102MPD1TD; Dielectric Material: Aluminium; Capacitance: 1mF; Tolerance: 20%; Voltage Rating (DC): 25V; Life (Hours): 2000Hour; Ripple Current: 960mA; Leakage Current: 750uA; Dissipation Factor: 0.16%; Lead Diameter: 0.6mm; Published: 23-Sep-2002; PackageReference: CAPR5-4X5; Publisher: Altium Limited; PackageDescription: Capacitor; 2 Leads; Mount: Through Hole,PCB; Case/Package: Radial; Number of Pins: 2; Min Operating Temperature: -40°C; Max Operating Temperature: 85°C; Packaging: Tape and Reel; Voltage Rating: 25V; Package Quantity: 500; Termination: Radial; Voltage: 25V; Diameter: 10mm; Length: 20mm; Height: 20mm; Lead Pitch: 5mm; Height - Seated (Max): 0.866inch; Radiation Hardening: No; REACH SVHC: No SVHC; Lead Free: Lead Free; ComponentLink1URL: http://www.farnell.com/datasheets/1909356.pdf?src-supplier=Element14; ComponentLink1Description: http://www.farnell.com/datasheets/1909356.pdf?src-supplier=Element14; ComponentLink2URL: http://nichicon-us.com/english/products/pdfs/e-uvr.pdf?src-supplier=Digi-Key; ComponentLink2Description: http://nichicon-us.com/english/products/pdfs/e-uvr.pdf?src-supplier=Digi-Key; ComponentLink3URL: http://www.nichicon.co.jp/english/products/pdfs/e-vr.pdf?src-supplier=Avnet; ComponentLink3Description: http://www.nichicon.co.jp/english/products/pdfs/e-vr.pdf?src-supplier=Avnet; ComponentLink4URL: http://products.nichicon.co.jp/en/pdf/XJA043/e-vr.pdf?src-supplier=Future+Electronics; ComponentLink4Description: http://products.nichicon.co.jp/en/pdf/XJA043/e-vr.pdf?src-supplier=Future+Electronics; Supplier 1: Digi-Key
footprint CAPR5-4X5 (Capacitor; 2 Leads)
pins: 1, 2

## Cap_polar 1000uF
designator C?, comment value 100pF  (hidden comment: 108CKE6R3M-ND)
1000 µF 6.3 V Aluminum Electrolytic Capacitors Radial, Can 364.7mOhm @ 120Hz 2000 Hrs @ 105°C; Manufacturer: Nichicon; Manufacturer Part Number: UVR1E102MPD1TD; Dielectric Material: Aluminium; Capacitance: 1mF; Tolerance: 20%; Voltage Rating (DC): 25V; Life (Hours): 2000Hour; Ripple Current: 960mA; Leakage Current: 750uA; Dissipation Factor: 0.16%; Lead Diameter: 0.6mm; Published: 23-Sep-2002; PackageReference: CAPR5-4X5; Publisher: Altium Limited; PackageDescription: Capacitor; 2 Leads; Mount: Through Hole,PCB; Case/Package: Radial; Number of Pins: 2; Min Operating Temperature: -40°C; Max Operating Temperature: 85°C; Packaging: Tape and Reel; Voltage Rating: 25V; Package Quantity: 500; Termination: Radial; Voltage: 25V; Diameter: 10mm; Length: 20mm; Height: 20mm; Lead Pitch: 5mm; Height - Seated (Max): 0.866inch; Radiation Hardening: No; REACH SVHC: No SVHC; Lead Free: Lead Free; ComponentLink1URL: http://www.farnell.com/datasheets/1909356.pdf?src-supplier=Element14; ComponentLink1Description: http://www.farnell.com/datasheets/1909356.pdf?src-supplier=Element14; ComponentLink2URL: http://nichicon-us.com/english/products/pdfs/e-uvr.pdf?src-supplier=Digi-Key; ComponentLink2Description: http://nichicon-us.com/english/products/pdfs/e-uvr.pdf?src-supplier=Digi-Key; ComponentLink3URL: http://www.nichicon.co.jp/english/products/pdfs/e-vr.pdf?src-supplier=Avnet; ComponentLink3Description: http://www.nichicon.co.jp/english/products/pdfs/e-vr.pdf?src-supplier=Avnet; ComponentLink4URL: http://products.nichicon.co.jp/en/pdf/XJA043/e-vr.pdf?src-supplier=Future+Electronics; ComponentLink4Description: http://products.nichicon.co.jp/en/pdf/XJA043/e-vr.pdf?src-supplier=Future+Electronics; Supplier 1: Digi-Key; Supplier Part Number 1: 108CKE6R3M-ND
footprint CAPR5-4X5 (Capacitor; 2 Leads)
pins: 1, 2

## Cap_polar_smd
designator C?  value 100pF  Supplier Part Number 1: 493-5913-1-ND
Capacitor; Manufacturer: Nichicon; Manufacturer Part Number: UVR1E102MPD1TD; Dielectric Material: Aluminium; Capacitance: 1mF; Tolerance: 20%; Voltage Rating (DC): 25V; Life (Hours): 2000Hour; Ripple Current: 960mA; Leakage Current: 750uA; Dissipation Factor: 0.16%; Lead Diameter: 0.6mm; Published: 23-Sep-2002; PackageReference: CAPR5-4X5; Publisher: Altium Limited; PackageDescription: Capacitor; 2 Leads; Supplier 1: Digi-Key; Stock 1: 57345; Pricing 1: 1=0.58, 10=0.408, 100=0.2689 (USD); Mount: Through Hole,PCB; Case/Package: Radial; Number of Pins: 2; Min Operating Temperature: -40°C; Max Operating Temperature: 85°C; Packaging: Tape and Reel; Voltage Rating: 25V; Package Quantity: 500; Termination: Radial; Voltage: 25V; Diameter: 10mm; Length: 20mm; Height: 20mm; Lead Pitch: 5mm; Height - Seated (Max): 0.866inch; Radiation Hardening: No; REACH SVHC: No SVHC; Lead Free: Lead Free; ComponentLink1URL: http://www.farnell.com/datasheets/1909356.pdf?src-supplier=Element14; ComponentLink1Description: http://www.farnell.com/datasheets/1909356.pdf?src-supplier=Element14; ComponentLink2URL: http://nichicon-us.com/english/products/pdfs/e-uvr.pdf?src-supplier=Digi-Key; ComponentLink2Description: http://nichicon-us.com/english/products/pdfs/e-uvr.pdf?src-supplier=Digi-Key; ComponentLink3URL: http://www.nichicon.co.jp/english/products/pdfs/e-vr.pdf?src-supplier=Avnet; ComponentLink3Description: http://www.nichicon.co.jp/english/products/pdfs/e-vr.pdf?src-supplier=Avnet; ComponentLink4URL: http://products.nichicon.co.jp/en/pdf/XJA043/e-vr.pdf?src-supplier=Future+Electronics; ComponentLink4Description: http://products.nichicon.co.jp/en/pdf/XJA043/e-vr.pdf?src-supplier=Future+Electronics
footprint SM/C_0805_TANT_LDR
pins: 1, 2

## Cap_Supercap 5F
designator C?, comment 1572-1747-ND  value 5F  Supplier Part Number 1: 477CKS016M-ND
5 F (EDLC) Supercapacitor 2.7 V Radial, Can 85mOhm @ 1kHz 2000 Hrs @ 65°C; Manufacturer: KYOCERA AVX; Manufacturer Part Number: SCCR25B505PRB; Dielectric Material: Aluminium; Capacitance: 5 F; Tolerance: 20%; Voltage Rating (DC): 2.7V; Life (Hours): 2000Hour; Ripple Current: 960mA; Leakage Current: 750uA; Dissipation Factor: 0.16%; Lead Diameter: 0.6mm; Published: 23-Sep-2002; PackageReference: CAPR5-4X5; Publisher: Altium Limited; PackageDescription: Capacitor; 2 Leads; Mount: Through Hole,PCB; Case/Package: Radial; Number of Pins: 2; Min Operating Temperature: -40°C; Max Operating Temperature: 85°C; Packaging: Tape and Reel; Voltage Rating: 2.7V; Package Quantity: 500; Termination: Radial; Voltage: 2.7V; Diameter: 10mm; Length: 20mm; Height: 20mm; Lead Pitch: 5mm; Height - Seated (Max): 0.866inch; Radiation Hardening: No; REACH SVHC: No SVHC; Lead Free: Lead Free; Supplier 1: Digi-Key; ComponentLink1Description: SUPERCAP CYLINDRICAL; ComponentLink1URL: https://www.digikey.com/en/products/detail/kyocera-avx/SCCR25B505PRB/12663768; Digi-Key_Part_Number: 478-SCCR25B505PRB-ND; Link: https://www.digikey.com/en/products/detail/kyocera-avx/SCCR25B505PRB/12663768
footprint C470U
pins: 1, 2

## Cap_tantali_10uF/16V_1206
designator C?  value 10uF/16V  Supplier Part Number 1: 293D106X0016A2TE3-ND
10 µF Molded Tantalum Capacitors 16 V 1206 (3216 Metric) 3Ohm; Manufacturer: Nichicon; Manufacturer Part Number: UVR1E102MPD1TD; Dielectric Material: Aluminium; Capacitance: 1mF; Tolerance: 20%; Voltage Rating (DC): 25V; Life (Hours): 2000Hour; Ripple Current: 960mA; Leakage Current: 750uA; Dissipation Factor: 0.16%; Lead Diameter: 0.6mm; Published: 23-Sep-2002; PackageReference: CAPR5-4X5; Publisher: Altium Limited; PackageDescription: Capacitor; 2 Leads; Mount: Through Hole,PCB; Case/Package: Radial; Number of Pins: 2; Min Operating Temperature: -40°C; Max Operating Temperature: 85°C; Packaging: Tape and Reel; Voltage Rating: 25V; Package Quantity: 500; Termination: Radial; Voltage: 25V; Diameter: 10mm; Length: 20mm; Height: 20mm; Lead Pitch: 5mm; Height - Seated (Max): 0.866inch; Radiation Hardening: No; REACH SVHC: No SVHC; Lead Free: Lead Free; ComponentLink1Description: 293D106X0016A2TE3; ComponentLink1URL: https://www.digikey.com/es/products/detail/vishay-sprague/293D106X0016A2TE3/1578608; Supplier 1: Digi-Key; Digi-Key_Part_Number: 718-1956-1-ND; Link: https://www.digikey.com/es/products/detail/vishay-sprague/293D106X0016A2TE3/1578608
footprint CAP-A Size (Tantal CAP A Size EIA/IECQ 3216)
pins: 1 +, 2

## Cap_tantali_100uF/10V_2917
designator C?  value 100uF/16V  Supplier Part Number 1: 718-1890-6-ND
Capacitores de tantalio Moldeado 100 µF 10 V 2917 (7343 métrico) 600mOhm; Manufacturer: Nichicon; Manufacturer Part Number: UVR1E102MPD1TD; Digi_Key_Part_Number: 718-1890-1-ND; Dielectric Material: Aluminium; Capacitance: 1mF; Tolerance: 20%; Voltage Rating (DC): 25V; Life (Hours): 2000Hour; Ripple Current: 960mA; Leakage Current: 750uA; Dissipation Factor: 0.16%; Lead Diameter: 0.6mm; Published: 23-Sep-2002; PackageReference: CAPR5-4X5; Publisher: Altium Limited; PackageDescription: Capacitor; 2 Leads; Mount: Through Hole,PCB; Case/Package: Radial; Number of Pins: 2; Min Operating Temperature: -40°C; Max Operating Temperature: 85°C; Packaging: Tape and Reel; Voltage Rating: 25V; Package Quantity: 500; Termination: Radial; Voltage: 25V; Diameter: 10mm; Length: 20mm; Height: 20mm; Lead Pitch: 5mm; Height - Seated (Max): 0.866inch; Radiation Hardening: No; REACH SVHC: No SVHC; Lead Free: Lead Free; Supplier 1: Digi-Key; Link: https://www.digikey.com/es/products/detail/293D107X5010D2TE3/718-1890-6-ND/3542941?utm_campaign=buynow&utm_medium=aggregator&curr=usd&utm_source=octopart; ComponentLink1Description: CAP TANT 100UF 5% 10V 2917; ComponentLink1URL: https://www.digikey.com/es/products/detail/293D107X5010D2TE3/718-1890-6-ND/3542941?utm_campaign=buynow&utm_medium=aggregator&curr=usd&utm_source=octopart
footprint CAP_2917
pins: 1 +, 2

## Cap_tantali_smd_47uF/10V_1411
designator C?, comment value 47uF/10V  Supplier Part Number 1: 399-9728-2-ND  (hidden comment: 399-9728-1-ND)
47 µF Molded Tantalum Capacitors 10 V 1411 (3528 Metric) 1Ohm; Manufacturer: Nichicon; Manufacturer Part Number: UVR1E102MPD1TD; Dielectric Material: Aluminium; Capacitance: 1mF; Tolerance: 20%; Voltage Rating (DC): 25V; Life (Hours): 2000Hour; Ripple Current: 960mA; Leakage Current: 750uA; Dissipation Factor: 0.16%; Lead Diameter: 0.6mm; Published: 23-Sep-2002; PackageReference: CAPR5-4X5; Publisher: Altium Limited; PackageDescription: Capacitor; 2 Leads; Mount: Through Hole,PCB; Case/Package: Radial; Number of Pins: 2; Min Operating Temperature: -40°C; Max Operating Temperature: 85°C; Packaging: Tape and Reel; Voltage Rating: 25V; Package Quantity: 500; Termination: Radial; Voltage: 25V; Diameter: 10mm; Length: 20mm; Height: 20mm; Lead Pitch: 5mm; Height - Seated (Max): 0.866inch; Radiation Hardening: No; REACH SVHC: No SVHC; Lead Free: Lead Free; ComponentLink1Description: T491B476K010AT; ComponentLink1URL: https://www.digikey.com/es/products/detail/kemet/T491B476K010AT/3724805?s=N4IgTCBcDaIMwE4EFoEHYwA5kEZkDkAREAXQF8g; Supplier 1: Digi-Key; Digi-Key_Part_Number: 399-9728-1-ND; Link: https://www.digikey.com/es/products/detail/kemet/T491B476K010AT/3724805?s=N4IgTCBcDaIMwE4EFoEHYwA5kEZkDkAREAXQF8g
footprint CAPPC3528X210N
pins: 1, 2

## Cap_Tantalio_2.2uf/10V_0805
designator C?  value 2.2uf/10v  Supplier Part Number 1: 718-2352-6-ND
Capacitores de tantalCapacitores de tantalio Moldeado 2.2 µF 10 V 0805 (2012 métrico) 8.8Ohm a 100kHzio Moldeado 10µF 16V 0805; Manufacturer: Kyocera AVX; Manufacturer Part Number: 08055C104MAT2A; Dielectric Material: Ceramic; Capacitance: 100nF; Voltage Rating: 50V; Tolerance: 20%; Dielectric: X7R; Dissipation Factor: 2.5%; Insulation Resistance: 100GR; ESR (Equivalent Series Resistance): 3R; Life (Hours): 2000Hour; Published: 8-Jun-2000; LatestRevisionDate: 17-Jul-2002; LatestRevisionNote: Re-released for DXP Platform.; PackageReference: RAD-0.3; Publisher: Altium Limited; PackageDescription: Radial Cap, Thru-Hole; 2 Leads; 0.3 in Pin Spacing; Mount: Surface Mount,PCB; Case/Package: 0805; Number of Pins: 2; Case Code (Metric): 2012; Case Code (Imperial): 0805; Contact Plating: Tin,Matte; Min Operating Temperature: -55°C; Max Operating Temperature: 125°C; Package Quantity: 1; Packaging: Tape and Reel; Voltage Rating (DC): 50V; Termination: SMD/SMT; Voltage: 50V; Length: 2.01mm; Height: 0.94mm; Width: 0.049inch; Thickness: 0.037inch; Depth: 1.25mm; Radiation Hardening: No; REACH SVHC: No SVHC; Lead Free: Lead Free; Features: General Purpose; Supplier 1: Digi-Key; ComponentLink1Description: CAP TANT 2.2UF 20% 10V 0805; ComponentLink1URL: https://www.digikey.com/es/products/detail/TMCHP1A225MTRF/718-2352-6-ND/10107774?utm_campaign=buynow&utm_medium=aggregator&curr=usd&utm_source=octopart; Digi-Key_Part_Number: 718-2352-1-ND; Link: https://www.digikey.com/es/products/detail/TMCHP1A225MTRF/718-2352-6-ND/10107774?utm_campaign=buynow&utm_medium=aggregator&curr=usd&utm_source=octopart
footprint CAP_tantalio_0805
pins: 1 -, 2

## Cap_Tantalio_2.2uf/10V_1206
designator C?  value 2.2uF/10V  Supplier Part Number 1: 478-3861-6-ND
2.2 µF Molded Tantalum Capacitors 10 V 1206 (3216 Metric) 7Ohm @ 100kHz; Manufacturer: Kyocera AVX; Manufacturer Part Number: 08055C104MAT2A; Digi_Key_Part_Number: 478-3861-1-ND; Dielectric Material: Ceramic; Capacitance: 100nF; Voltage Rating: 50V; Tolerance: 20%; Dielectric: X7R; Dissipation Factor: 2.5%; Insulation Resistance: 100GR; ESR (Equivalent Series Resistance): 3R; Life (Hours): 2000Hour; Published: 8-Jun-2000; LatestRevisionDate: 17-Jul-2002; LatestRevisionNote: Re-released for DXP Platform.; PackageReference: RAD-0.3; Publisher: Altium Limited; PackageDescription: Radial Cap, Thru-Hole; 2 Leads; 0.3 in Pin Spacing; Mount: Surface Mount,PCB; Case/Package: 0805; Number of Pins: 2; Case Code (Metric): 2012; Case Code (Imperial): 0805; Contact Plating: Tin,Matte; Min Operating Temperature: -55°C; Max Operating Temperature: 125°C; Package Quantity: 1; Packaging: Tape and Reel; Voltage Rating (DC): 50V; Termination: SMD/SMT; Voltage: 50V; Length: 2.01mm; Height: 0.94mm; Width: 0.049inch; Thickness: 0.037inch; Depth: 1.25mm; Radiation Hardening: No; REACH SVHC: No SVHC; Lead Free: Lead Free; Features: General Purpose; Supplier 1: Digi-Key; Link: https://www.digikey.com/es/products/detail/TAJA225K010RNJ/478-3861-6-ND/1127025?utm_campaign=buynow&utm_medium=aggregator&curr=usd&utm_source=octopart
footprint CAP_tantalio_1206
pins: 1 -, 2